# EAGLE library part NRF51822 (library parts_servo)
Nordic nRF51822 RF SoC
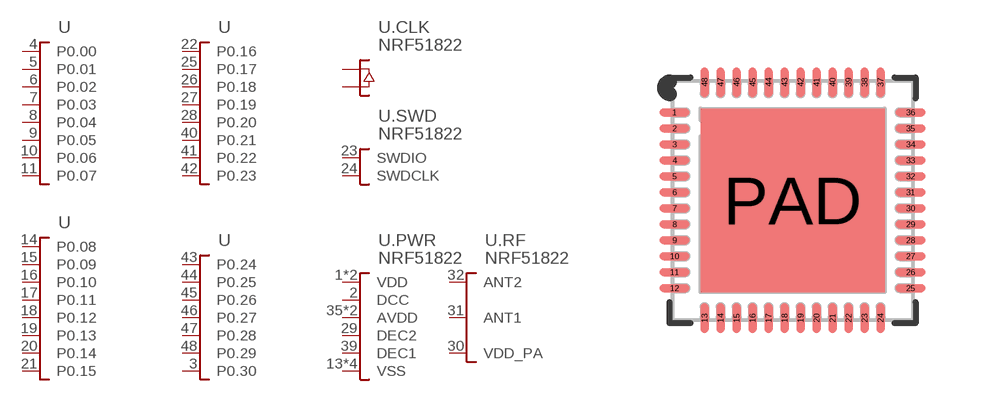
[diagram p0: symbol with the pads of DFN-48(6X6)+EP; footprint DFN-48(6X6)+EP]

Designator prefix U; gates .CLK=FLOATING_CLK .SWD=FLOATING_SWD .RF=NRF51822-RF .PWR=NRF51822-PWR P0.00-07=FLOATING_P0.00-07 P0.08-15=FLOATING_P0.08-15 P0.16-23=FLOATING_P0.16-23 P0.24-31=FLOATING_P0.24-30

## NRF51822-QFN-48(6X6)  [DFN-48(6X6)+EP]
1  .PWR:VDD  pwr
2  .PWR:DCC  pas
3  P0.24-31:P0.30
4  P0.00-07:P0.00
5  P0.00-07:P0.01
6  P0.00-07:P0.02
7  P0.00-07:P0.03
8  P0.00-07:P0.04
9  P0.00-07:P0.05
10  P0.00-07:P0.06
11  P0.00-07:P0.07
12  .PWR:VDD  pwr
13  .PWR:VSS  pwr
14  P0.08-15:P0.08
15  P0.08-15:P0.09
16  P0.08-15:P0.10
17  P0.08-15:P0.11
18  P0.08-15:P0.12
19  P0.08-15:P0.13
20  P0.08-15:P0.14
21  P0.08-15:P0.15
22  P0.16-23:P0.16
23  .SWD:SWDIO
24  .SWD:SWDCLK  in
25  P0.16-23:P0.17
26  P0.16-23:P0.18
27  P0.16-23:P0.19
28  P0.16-23:P0.20
29  .PWR:DEC2  pas
30  .RF:VDD_PA  pas
31  .RF:ANT1  pas
32  .RF:ANT2  pas
33  .PWR:VSS  pwr
34  .PWR:VSS  pwr
35  .PWR:AVDD  pwr
36  .PWR:AVDD  pwr
37  .CLK:CLKIN  in
38  .CLK:CLKOUT  out
39  .PWR:DEC1  pas
40  P0.16-23:P0.21
41  P0.16-23:P0.22
42  P0.16-23:P0.23
43  P0.24-31:P0.24
44  P0.24-31:P0.25
45  P0.24-31:P0.26
46  P0.24-31:P0.27
47  P0.24-31:P0.28
48  P0.24-31:P0.29
PAD  .PWR:VSS  pwr

## Footprint DFN-48(6X6)+EP (pad centres in mm)
QFN-48 6x6mm, 48 pad, 0.4 mm pitch + Thermal Center Pad Quad Flat No-lead Used by nRF51822
smd 0.75 x 0.2: 1 -2.95,2.2; 2 -2.95,1.8; 3 -2.95,1.4; 4 -2.95,1; 5 -2.95,0.6; 6 -2.95,0.2; 7 -2.95,-0.2; 8 -2.95,-0.6; 9 -2.95,-1; 10 -2.95,-1.4; 11 -2.95,-1.8; 12 -2.95,-2.2; 25 2.95,-2.2; 26 2.95,-1.8; 27 2.95,-1.4; 28 2.95,-1; 29 2.95,-0.6; 30 2.95,-0.2; 31 2.95,0.2; 32 2.95,0.6; 33 2.95,1; 34 2.95,1.4; 35 2.95,1.8; 36 2.95,2.2
smd 0.2 x 0.75: 13 -2.2,-2.95; 14 -1.8,-2.95; 15 -1.4,-2.95; 16 -1,-2.95; 17 -0.6,-2.95; 18 -0.2,-2.95; 19 0.2,-2.95; 20 0.6,-2.95; 21 1,-2.95; 22 1.4,-2.95; 23 1.8,-2.95; 24 2.2,-2.95; 37 2.2,2.95; 38 1.8,2.95; 39 1.4,2.95; 40 1,2.95; 41 0.6,2.95; 42 0.2,2.95; 43 -0.2,2.95; 44 -0.6,2.95; 45 -1,2.95; 46 -1.4,2.95; 47 -1.8,2.95; 48 -2.2,2.95
smd 4.6 x 4.6: PAD 0,0